# Altium footprint library P4040.PcbLib: 1 footprints
Each footprint in its own frame and in the unit in brackets; x right, y up, seen from the top. Pads: shape width x height; smd on the part's side, far side on the other; paste and mask are expansions set on the pad; w line width, h text height; cw(c..) or ccw(c..) is an arc to the next point about the centre after c.
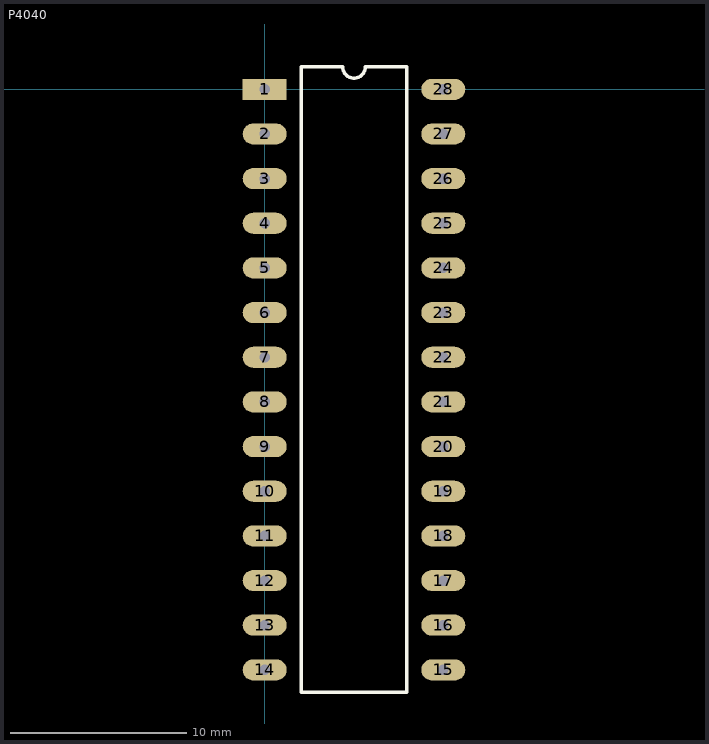
[diagram p0: the footprint, top view; thin cyan lines are the x and y axes]

## P4040 [mm]
pads (28):
  rect 2.5x1.2 hole 0.6: 1(0,0)
  oval 2.5x1.2 hole 0.6: 2(0,-2.54) 3(0,-5.08) 4(0,-7.62) 5(0,-10.16) 6(0,-12.7) 7(0,-15.24) 8(0,-17.78) 9(0,-20.32) 10(0,-22.86) 11(0,-25.4) 12(0,-27.94) 13(0,-30.48) 14(0,-33.02) 15(10.16,-33.02) 16(10.16,-30.48) 17(10.16,-27.94) 18(10.16,-25.4) 19(10.16,-22.86) 20(10.16,-20.32) 21(10.16,-17.78) 22(10.16,-15.24) 23(10.16,-12.7) 24(10.16,-10.16) 25(10.16,-7.62) 26(10.16,-5.08) 27(10.16,-2.54) 28(10.16,0)
Top Overlay:
  lines w0.2: 2.085,-34.29 2.085,1.27 4.445,1.27 ccw(c5.08,1.27) 5.715,1.27 8.075,1.27 8.075,-34.29 2.085,-34.29